# Altium schematic symbol library relay_G2RL-1-E.Schlib: 1 symbol
Pins are listed as number, name and electrical type; pins without a type are passive.

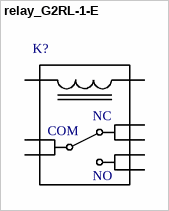
[diagram p0: symbol relay_G2RL-1-E]

## relay_G2RL-1-E
designator K?  (value not drawn)
pins: 1, 2, 3, 4, 5, 6, 7, 8
text: NC; COM; NO